# Altium schematic symbol library ECS-250-10-37B2-CWN-TR.Schlib: 1 symbol
Pins are listed as number, name and electrical type; pins without a type are passive.

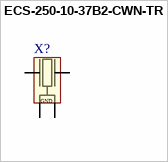
[diagram p0: symbol ECS-250-10-37B2-CWN-TR]

## ECS-250-10-37B2-CWN-TR
designator X?
Oscillator
pins: 1, 2 (power), 3, 4 (power)
text: GND